# Altium footprint library VQFP-44.PcbLib: 1 footprints
Each footprint in its own frame and in the unit in brackets; x right, y up, seen from the top. Pads: shape width x height; smd on the part's side, far side on the other; paste and mask are expansions set on the pad; w line width, h text height; cw(c..) or ccw(c..) is an arc to the next point about the centre after c.
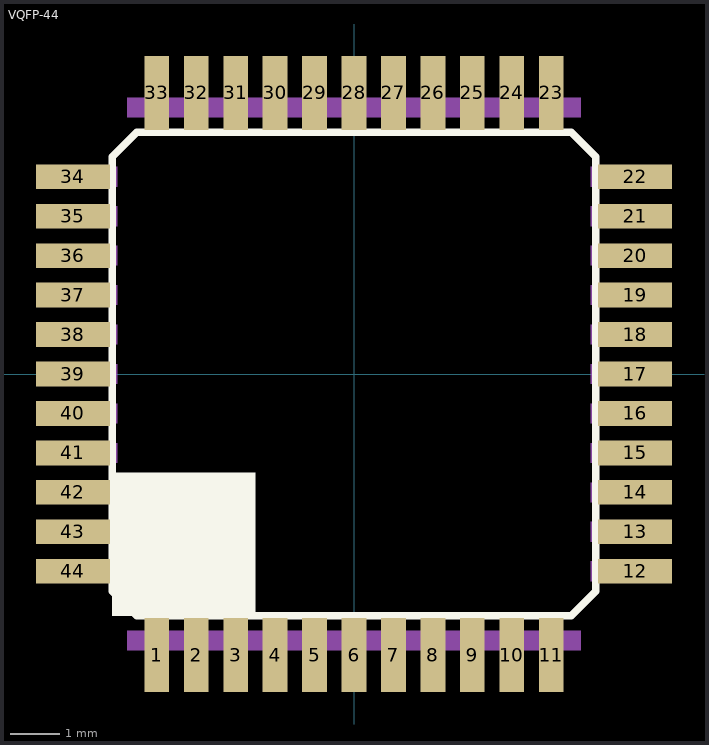
[diagram p0: the footprint, top view; thin cyan lines are the x and y axes]

## VQFP-44 [mm]
pads (44):
  rect 0.5x1.5 smd: 1(-4,-5.7) 2(-3.2,-5.7) 3(-2.4,-5.7) 4(-1.6,-5.7) 5(-0.8,-5.7) 6(0,-5.7) 7(0.8,-5.7) 8(1.6,-5.7) 9(2.4,-5.7) 10(3.2,-5.7) 11(4,-5.7) 23(4,5.7) 24(3.2,5.7) 25(2.4,5.7) 26(1.6,5.7) 27(0.8,5.7) 28(0,5.7) 29(-0.8,5.7) 30(-1.6,5.7) 31(-2.4,5.7) 32(-3.2,5.7) 33(-4,5.7)
  rect 1.5x0.5 smd: 12(5.7,-4) 13(5.7,-3.2) 14(5.7,-2.4) 15(5.7,-1.6) 16(5.7,-0.8) 17(5.7,0) 18(5.7,0.8) 19(5.7,1.6) 20(5.7,2.4) 21(5.7,3.2) 22(5.7,4) 34(-5.7,4) 35(-5.7,3.2) 36(-5.7,2.4) 37(-5.7,1.6) 38(-5.7,0.8) 39(-5.7,0) 40(-5.7,-0.8) 41(-5.7,-1.6) 42(-5.7,-2.4) 43(-5.7,-3.2) 44(-5.7,-4)
Top Overlay:
  region: -2,-4.9 -4.9,-4.9 -4.9,-2 -2,-2
  lines w0.152: -4.9,-4.4 -4.4,-4.9 4.4,-4.9 4.9,-4.4 4.9,4.4 4.4,4.9 -4.4,4.9 -4.9,4.4 -4.9,-4.4
Mechanical 13:
  drawing of 44 lines, arcs and shapes, not listed